# EAGLE library part LM2594MX-5.0/NOPB (library SBR05M60BLP-7)
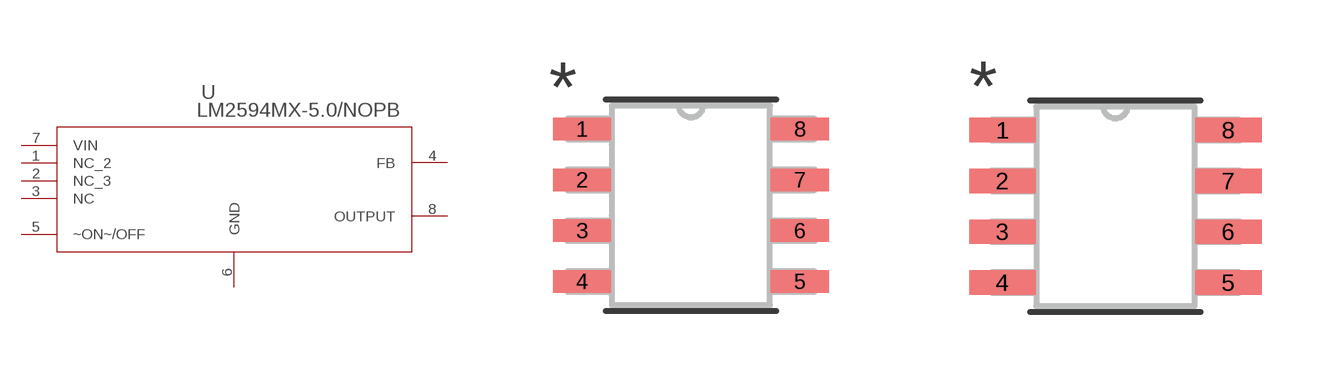
[diagram p0: symbol with the pads of M08A_TEX; footprints M08A_TEX, M08A_TEX-M]

Designator prefix U

## LM2594MX-5.0/NOPB (BUILT_BY: EMA_UL_Team; MANUFACTURER_PART_NUMBER: LM2594MX-5.0/NOPB; SOURCELIBRARY: National_2014-06-20; VENDOR: Texas Instruments)  [M08A_TEX]
1  NC_2  pas
2  NC_3  pas
3  NC  pas
4  FB  pas
5  ~ON~/OFF  pas
6  GND  pas
7  VIN  in
8  OUTPUT  out

## LM2594MX-5.0/NOPBM08A_TEX-M (BUILT_BY: EMA_UL_Team; MANUFACTURER_PART_NUMBER: LM2594MX-5.0/NOPB; SOURCELIBRARY: National_2014-06-20; VENDOR: Texas Instruments)  [M08A_TEX-M]
Pads as for M08A_TEX

## LM2594MX-5.0/NOPBM08A_TEX-L (BUILT_BY: EMA_UL_Team; MANUFACTURER_PART_NUMBER: LM2594MX-5.0/NOPB; SOURCELIBRARY: National_2014-06-20; VENDOR: Texas Instruments)  [M08A_TEX-L]
Pads as for M08A_TEX

## Footprint M08A_TEX (pad centres in mm)
smd 1.46 x 0.559: 1 -2.724,1.905; 2 -2.724,0.635; 3 -2.724,-0.635; 4 -2.724,-1.905; 5 2.724,-1.905; 6 2.724,-0.635; 7 2.724,0.635; 8 2.724,1.905

## Footprint M08A_TEX-M (pad centres in mm)
smd 1.664 x 0.61: 1 -2.826,1.905; 2 -2.826,0.635; 3 -2.826,-0.635; 4 -2.826,-1.905; 5 2.826,-1.905; 6 2.826,-0.635; 7 2.826,0.635; 8 2.826,1.905

## Footprint M08A_TEX-L (pad centres in mm)
smd 1.257 x 0.508: 1 -2.623,1.905; 2 -2.623,0.635; 3 -2.623,-0.635; 4 -2.623,-1.905; 5 2.623,-1.905; 6 2.623,-0.635; 7 2.623,0.635; 8 2.623,1.905